# Altium schematic symbol library SPB_Oscillators.SchLib: 3 symbols
Pins are listed as number, name and electrical type; pins without a type are passive.

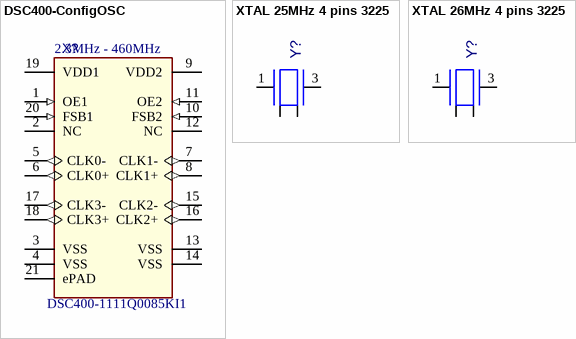
[diagram p0: symbols DSC400-ConfigOSC to XTAL 26MHz 4 pins 3225]

## DSC400-ConfigOSC
designator X?  Manufacturer Part Number 1: DSC400-1111Q0085KI1  Frequency: 2.3MHz - 460MHz
OSC MEMS CONFIGURABLE FOUR OUTPUT; Manufacturer 1: Microchip Technology; Part Checked: Maurizio Garvadoni; Populated: Yes; Owner: Jennifer Hancock; Freq Stability: +/- 50ppm; CLK0 Output: 25MHz; CLK3 Output: 125MHz; Category: Crystals and Oscillators; ComponentLink1URL: http://nyusperforce.smsc.com//depot_np_hweng_boards/altium_libraries/datasheets/_Microchip/_Micrel/DSC400-1111Q0085KI1-4OutputOSC.pdf; ComponentLink1Description: Datasheet; Description_: OSC MEMS CONFIGURABLE FOUR OUTPUT; RoHS: RoHS Compliant; Package: 20-VFQFN Exposed Pad; Size: 5.00mm x 3.20mm; Part 3D Model Checked: *; Part Footprint Checked: Maurizio Garvadoni; Part Golden: *; CLK1 Output: 25MHz; CLK2 Output: 25MHz
footprint QFN-20_5x3.2_EP (QFN 20-Leads, Body 5 x 3.2mm, Pitch 0.5mm, IPC Medium Density, with stencil windows)
pins: 1 OE1 (in), 2 NC, 3 VSS (power), 4 VSS (power), 5 CLK0- (out), 6 CLK0+ (out), 7 CLK1- (out), 8 CLK1+ (out), 9 VDD2 (power), 10 FSB2 (in), 11 OE2 (in), 12 NC, 13 VSS (power), 14 VSS (power), 15 CLK2- (out), 16 CLK2+ (out), 17 CLK3- (out), 18 CLK3+ (out), 19 VDD1 (power), 20 FSB1 (in), 21 ePAD (power)

## XTAL 25MHz 4 pins 3225
designator Y?  (value not drawn)
Crystal 25MHz 10pF SMD 4Pin DFN LCC; Manufacturer Part Number 1: ABM8G-25.000MHZ-B4Y-T; ComponentLink1URL: http://nyusperforce.smsc.com//depot_np_hweng_boards/altium_libraries/datasheets/Abracon/ABM8G-10572.pdf; ComponentLink1Description: Datasheet; Supplier 1: Mouser; Supplier Part Number 1: 815-ABM8G-25-B4Y-T; Revision: A; Mouser Part #: 815-ABM8G-25-B4Y-T
footprint XTAL_4PIN_3M2X2M5 (Crystal 4 pin 3.2 x 2.5 mm)
pins: 1 Osc1, 2 GND (power), 3 Osc2, 4 GND (power)

## XTAL 26MHz 4 pins 3225
designator Y?  (value not drawn)
Crystal 26MHz 8pF SMD 4Pin DFN LCC; Manufacturer Part Number 1: TSX-3225 26.0000MF10Z-B6; ComponentLink1URL: http://nyusperforce.smsc.com//depot_np_hweng_boards/altium_libraries/datasheets/Abracon/ABM8G-10572.pdf; ComponentLink1Description: Datasheet; Supplier 1: Mouser; Supplier Part Number 1: 732-22526MF1Z-B6; Revision: A; Mouser Part #: 732-22526MF1Z-B6; Supplier 2: Digi-Key; Parameter 1: TSX-3225 26.0000MF10Z-B6
footprint XTAL_4PIN_3M2X2M5 (Crystal 4 pin 3.2 x 2.5 mm)
pins: 1 Osc1, 2 GND (power), 3 Osc2, 4 GND (power)